# Altium schematic symbol library electronic_dc_load_v1.SchLib: 53 symbols (part 1 of 2)
Pins are listed as number, name and electrical type; pins without a type are passive.

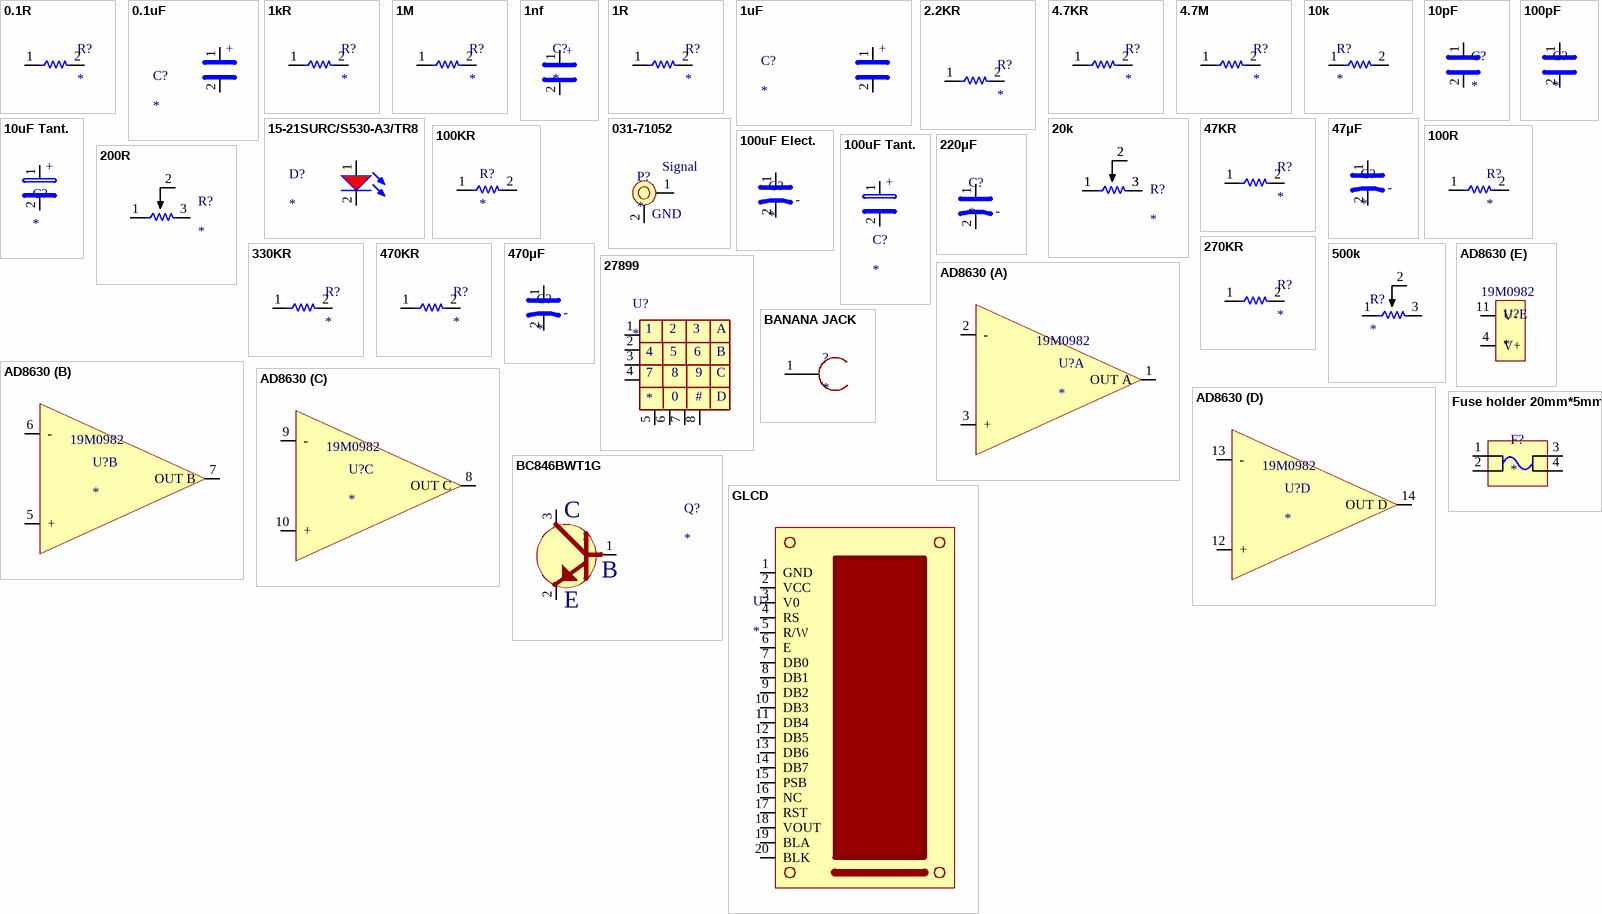
[diagram p0: symbols 0.1R to GLCD]

## 0.1R
designator R?
BOURNS - PWR220T-35-R100F - RESISTOR, POWER, 0.1R, 0.01, 35W; Resistance: 100mR; Tolerance: 1%; Voltage Rating: 2kV; Threshold Voltage: 1.4V; Temperature Coefficient: 100ppm/°C; Voltage Rating (DC): 250V; Lead Diameter: 0.72mm; Supplier 1: Digi-Key; Manufacturer: Bourns; Manufacturer Part Number: PWR220T-35-R100F; RoHS: Yes; Category: Through-Hole Resistors; Stock 1: 660; Pricing 1: 1=4.48000, 10=4.05400, 100=3.01880, 1000=2.17350, 2500=2.13900 (USD); Case/Package: TO-220; Min Operating Temperature: -55°C; Max Operating Temperature: 155°C; Power Rating: 35W; Packaging: Rail/Tube; Package Quantity: 50; Resistor Type: Thick Film; Number of Terminations: 2; Termination: Radial; Max Power Dissipation: 35W; Features: Automotive AEC-Q200; Series: PWR220T-35; Resistance Tolerance: 1%; Construction: Rectangular; Technology: THICK FILM; Length: 10.1mm; Width: 0.157inch; Height: 14.6mm; Lead Pitch: 5.08mm; Depth: 4mm; REACH SVHC: No SVHC; Military Standard: Not; RoHS Compliant: Yes; ComponentLink1URL: https://datasheet.ciiva.com/7986/1869472-7986042.pdf?src-supplier=Element14; ComponentLink1Description: https://datasheet.ciiva.com/7986/1869472-7986042.pdf?src-supplier=Element14; Supplier Part Number 1: PWR220T-35-R100F-ND
footprint TO-220 - 2 PIN
pins: 1, 2

## 0.1uF
designator C?
CAPACITOR PEN FILM 0.1UF, 100V, 10%, 1812, FULL REEL; Product Range:AEC-Q200 LDE Series; Capacitance:0.1 F; Capacitance Tolerance: 10%; Capacitor Dielectric Type:PEN (Polyethylene Naphthalate); Voltage Rating:100V; Lead Spacing:- ;RoHS Compliant: Yes; Manufacturer: KEMET; Manufacturer Part Number: LDEEC3100KA5N00; Dielectric Material: Polyester; Capacitance: 100nF; Voltage Rating (AC): 63V; Dissipation Factor: 0.8%; Supplier 1: Digi-Key; RoHS: Yes; Category: Film Capacitors; Stock 1: 2950; Pricing 1: 1=0.88000, 10=0.66600, 50=0.55300, 100=0.47620, 500=0.36868, 1000=0.31747 (USD); Mount: Surface Mount,PCB; Case/Package: 1812; Number of Pins: 2; Case Code (Metric): 4532; Case Code (Imperial): 1812; Min Operating Temperature: -55°C; Max Operating Temperature: 125°C; Tolerance: 10%; Package Quantity: 1; Voltage Rating: 100V; Voltage Rating (DC): 100V; Packaging: Tape and Reel; Termination: SMD/SMT; Voltage: 100V; Series: LDE; Construction: Flat; Length: 4.7mm; Width: 3.2mm; Height: 2.4mm; Height - Seated (Max): 0.094inch; Depth: 3.3mm; Radiation Hardening: No; REACH SVHC: No SVHC; RoHS Compliant: Yes; ComponentLink1URL: https://datasheet.ciiva.com/17238/datasheetpn-ldeec3100ka5n00-17238771.pdf?src-supplier=Avnet+Europe; ComponentLink1Description: https://datasheet.ciiva.com/17238/datasheetpn-ldeec3100ka5n00-17238771.pdf?src-supplier=Avnet+Europe; Supplier Part Number 1: 399-5480-1-ND
footprint RESC2012X06N (Chip Resistor, 2-Leads, Body 2.00x1.25mm, IPC Medium Density)
pins: 1, 2
text: +

## 1kR
designator R?
Resistor;  Thin Film;  Res 1 Kilohms;  Pwr-Rtg 0.25 W;  Tol 0.1%;  SMT;  0805; Manufacturer: TT IRC; Manufacturer Part Number: PFC-W0805LF-03-1001-B; Resistance: 1kR; Voltage Rating: 100V; Power Rating: 250mW; Temperature Coefficient: 25ppm/°C; Supplier 1: Mouser; RoHS: Yes; Category: Chip SMD Resistors; Stock 1: 8948; Pricing 1: 1=0.98000, 10=0.95500, 50=0.82700, 100=0.76400, 1000=0.50900, 10000=0.44600 (USD); Case/Package: 0805; Number of Pins: 2; Case Code (Imperial): 0805; Case Code (Metric): 2012; Size Code: 0805; Min Operating Temperature: -55°C; Max Operating Temperature: 150°C; Tolerance: 0.1%; Packaging: Tape and Reel; Package Quantity: 1000; Resistor Type: Thin Film; Termination: SMD/SMT; Voltage Rating (DC): 100V; Series: PFC; Construction: Rectangular; Resistance Tolerance: 0.1%; Length: 2.05mm; Width: 1.27mm; Height: 0.5mm; Depth: 1.27mm; REACH SVHC: No SVHC; Military Standard: Not; Lead Free: Lead Free; RoHS Compliant: Yes; ComponentLink1URL: https://datasheet.ciiva.com/26849/getdatasheetpartid-728507-26849970.pdf?src-supplier=Verical; ComponentLink1Description: https://datasheet.ciiva.com/26849/getdatasheetpartid-728507-26849970.pdf?src-supplier=Verical; ComponentLink2URL: https://datasheet.ciiva.com/8036/126955-8036106.pdf?src-supplier=Element14; ComponentLink2Description: https://datasheet.ciiva.com/8036/126955-8036106.pdf?src-supplier=Element14; ComponentLink3URL: https://datasheet.ciiva.com/16756/70061376-16756399.pdf?src-supplier=Allied+Electronics; ComponentLink3Description: https://datasheet.ciiva.com/16756/70061376-16756399.pdf?src-supplier=Allied+Electronics; Supplier Part Number 1: 66-PFC08LF1.0K-B
footprint RESC1518X26N (Chip Resistor, 2-Leads, Body 1.50x1.80mm, IPC Medium Density)
pins: 1, 2

## 1M
designator R?
Res Thin Film 1206 1M Ohm 0.1% 0.25W(1/4W) ±25ppm/C Molded SMD Automotive Paper T/R; Manufacturer: Vishay Dale; Manufacturer Part Number: TNPW12061M00BEEA; Resistance: 1MR; Power Rating: 250mW; Voltage Rating: 200V; Temperature Coefficient: 25ppm/°C; Supplier 1: Digi-Key; RoHS: Yes; Category: Chip SMD Resistors; Stock 1: 47810; Pricing 1: 1=0.72000, 10=0.62700, 100=0.43700, 1000=0.25650, 2500=0.25270 (USD); Mount: Surface Mount; Case/Package: 1206; Case Code (Imperial): 1206; Case Code (Metric): 3216; Contact Plating: Tin; Size Code: 1206; Min Operating Temperature: -55°C; Max Operating Temperature: 125°C; Tolerance: 0.1%; Packaging: Tape and Reel; Package Quantity: 5000; Termination: SMD/SMT; Resistor Type: Thin Film; Number of Terminations: 2; Max Power Dissipation: 250mW; Voltage Rating (DC): 200V; Features: Moisture Resistant,Automotive AEC-Q200,Anti-Sulfur; Series: TNPW; Resistance Tolerance: 0.1%; Technology: THIN FILM; Construction: Rectangular; Length: 3.2mm; Width: 1.6mm; Height: 0.55mm; Depth: 1.6mm; Radiation Hardening: No; REACH SVHC: Unknown; Military Standard: Not; Lead Free: Lead Free; RoHS Compliant: Yes; ComponentLink1URL: https://datasheet.ciiva.com/2484/tnpw-e3-2484754.pdf?src-supplier=Digi-Key; ComponentLink1Description: https://datasheet.ciiva.com/2484/tnpw-e3-2484754.pdf?src-supplier=Digi-Key; ComponentLink2URL: https://datasheet.ciiva.com/2484/tnpw-e3-2484755.pdf?src-supplier=Digi-Key; ComponentLink2Description: https://datasheet.ciiva.com/2484/tnpw-e3-2484755.pdf?src-supplier=Digi-Key; ComponentLink3URL: https://datasheet.ciiva.com/2484/tnpw-e3-2484756.pdf?src-supplier=Digi-Key; ComponentLink3Description: https://datasheet.ciiva.com/2484/tnpw-e3-2484756.pdf?src-supplier=Digi-Key; ComponentLink4URL: https://datasheet.ciiva.com/22675/1599293-22675126.pdf?src-supplier=Element14; ComponentLink4Description: https://datasheet.ciiva.com/22675/1599293-22675126.pdf?src-supplier=Element14; ComponentLink5URL: https://datasheet.ciiva.com/16757/70201627-16757642.pdf?src-supplier=Allied+Electronics; ComponentLink5Description: https://datasheet.ciiva.com/16757/70201627-16757642.pdf?src-supplier=Allied+Electronics; ComponentLink6URL: https://datasheet.ciiva.com/46383/1599293-46383851.pdf?src-supplier=Element14; ComponentLink6Description: https://datasheet.ciiva.com/46383/1599293-46383851.pdf?src-supplier=Element14; Supplier Part Number 1: TNP1.00MACCT-ND
footprint RESC3216X06N (Chip Resistor, 2-Leads, Body 3.20x1.60mm, IPC Medium Density)
pins: 1, 2

## 1nf
designator C?
CAP FILM 1000PF 5% 100VDC RADIAL; Manufacturer: KEMET; Manufacturer Part Number: R82EC1100AA50J; Dielectric Material: Polyester; Capacitance: 1nF; Voltage Rating (DC): 100V; Voltage Rating (AC): 63V; Dielectric: PET; Dissipation Factor: 80%; Insulation Resistance: 30R; Type: General Purpose; Lead Diameter: 0.5mm; Supplier 1: Digi-Key; RoHS: Yes; Category: Film Capacitors; Stock 1: 3; Pricing 1: 1=0.22000, 10=0.14800, 50=0.09880, 100=0.08400, 500=0.05928, 1000=0.05187, 2500=0.04940, 5000=0.04570 (USD); Mount: Through Hole,PCB; Case/Package: Radial; Min Operating Temperature: -55°C; Max Operating Temperature: 105°C; Packaging: Bulk; Tolerance: 5%; Package Quantity: 3000; Voltage Rating: 100V; Termination: Radial; Voltage: 100V; Series: R82; Construction: RADIAL; Length: 7.2mm; Width: 2.5mm; Height: 6.5mm; Lead Pitch: 5mm; Height - Seated (Max): 0.26inch; Depth: 2.5mm; Ratings: AEC-Q200; Radiation Hardening: No; RoHS Compliant: Yes; ComponentLink1URL: https://datasheet.ciiva.com/13404/kem-f3101-r82-540827-13404565.pdf?src-supplier=Mouser; ComponentLink1Description: https://datasheet.ciiva.com/13404/kem-f3101-r82-540827-13404565.pdf?src-supplier=Mouser; Supplier Part Number 1: 399-5871-ND
footprint R82EC1100AA50J
pins: 1, 2
text: +

## 1R
designator R?
RES 1 OHM 5W 1% AXIAL; Manufacturer: Vishay BCcomponents; Manufacturer Part Number: PAC500001008FAC000; Resistance: 1R; Temperature Coefficient: 100ppm/°C; Supplier 1: Mouser; RoHS: Yes; Category: Through-Hole Resistors; Stock 1: 101; Pricing 1: 1=1.28000, 10=0.95500, 50=0.95500, 100=0.69800, 1000=0.48800, 10000=0.45600 (USD); Mount: Through Hole; Case/Package: Conformal; Contact Plating: Tin; Min Operating Temperature: -55°C; Max Operating Temperature: 275°C; Package Quantity: 1; Power Rating: 5W; Tolerance: 1%; Packaging: Tape and Reel; Resistor Type: Wirewound; Number of Terminations: 2; Termination: Axial; Max Power Dissipation: 5W; Features: Flame Retardant Coating; Series: PAC; Construction: Cylindrical; Diameter: 7.5mm; Length: 26mm; Radiation Hardening: No; Military Standard: Not; RoHS Compliant: Yes; ComponentLink1URL: https://datasheet.ciiva.com/2720/pacserie-2720053.pdf?src-supplier=Digi-Key; ComponentLink1Description: https://datasheet.ciiva.com/2720/pacserie-2720053.pdf?src-supplier=Digi-Key; ComponentLink2URL: https://datasheet.ciiva.com/2720/pacserie-2720054.pdf?src-supplier=Digi-Key; ComponentLink2Description: https://datasheet.ciiva.com/2720/pacserie-2720054.pdf?src-supplier=Digi-Key; ComponentLink3URL: https://datasheet.ciiva.com/8401/pacserie-8401197.pdf?src-supplier=Avnet; ComponentLink3Description: https://datasheet.ciiva.com/8401/pacserie-8401197.pdf?src-supplier=Avnet; Supplier Part Number 1: 71-PAC500001008FAC00
footprint RESC296132X130N (Chip Resistor, 2-Leads, Body 29.59x13.21mm, IPC Medium Density)
pins: 1, 2

## 1uF
designator C?
CAP TANT 1UF 35V 10% 1206; Manufacturer: Kyocera AVX; Manufacturer Part Number: TPSA105K035R3000; Dielectric Material: Tantalum; ESR (Equivalent Series Resistance): 3R; Ripple Current: 63uA; Leakage Current: 500nA; Polarity: Polar; Dissipation Factor: 4%; Supplier 1: Digi-Key; RoHS: Yes; Category: Tantalum Capacitors; Stock 1: 11457; Pricing 1: 1=0.57000, 10=0.40600, 50=0.30680, 100=0.26730, 500=0.19800, 1000=0.16830 (USD); Mount: Surface Mount,PCB; Case/Package: 1206; Number of Pins: 2; Case Code (Imperial): 1206; Case Code (Metric): 3216; Min Operating Temperature: -55°C; Max Operating Temperature: 125°C; Capacitance: 1uF; Package Quantity: 1; Voltage Rating: 35V; Tolerance: 10%; Packaging: Tape and Reel; Voltage Rating (DC): 35V; Termination: SMD/SMT; Voltage: 35V; Features: General Purpose; Series: TPS; Construction: Flat; Length: 3.2mm; Width: 1.6mm; Height: 1.6mm; Height - Seated (Max): 0.071inch; Depth: 1.6mm; Radiation Hardening: No; REACH SVHC: No SVHC; Lead Free: Lead Free; RoHS Compliant: Yes; ComponentLink1URL: https://datasheet.ciiva.com/11794/0900766b8070be5f-11794565.pdf?src-supplier=RSComponents; ComponentLink1Description: https://datasheet.ciiva.com/11794/0900766b8070be5f-11794565.pdf?src-supplier=RSComponents; ComponentLink2URL: https://datasheet.ciiva.com/263/tps-263817.pdf?src-supplier=Digi-Key; ComponentLink2Description: https://datasheet.ciiva.com/263/tps-263817.pdf?src-supplier=Digi-Key; ComponentLink3URL: https://datasheet.ciiva.com/7832/1680477-7832618.pdf?src-supplier=Element14; ComponentLink3Description: https://datasheet.ciiva.com/7832/1680477-7832618.pdf?src-supplier=Element14; ComponentLink4URL: https://datasheet.ciiva.com/7832/1441576-7832619.pdf?src-supplier=Element14; ComponentLink4Description: https://datasheet.ciiva.com/7832/1441576-7832619.pdf?src-supplier=Element14; ComponentLink5URL: https://datasheet.ciiva.com/7832/1441576-7832620.pdf?src-supplier=Element14; ComponentLink5Description: https://datasheet.ciiva.com/7832/1441576-7832620.pdf?src-supplier=Element14; ComponentLink6URL: https://datasheet.ciiva.com/14602/70001047-14602621.pdf?src-supplier=Allied+Electronics; ComponentLink6Description: https://datasheet.ciiva.com/14602/70001047-14602621.pdf?src-supplier=Allied+Electronics; ComponentLink7URL: https://datasheet.ciiva.com/14598/70001047-14598933.pdf?src-supplier=Allied+Electronics; ComponentLink7Description: https://datasheet.ciiva.com/14598/70001047-14598933.pdf?src-supplier=Allied+Electronics; ComponentLink8URL: https://datasheet.ciiva.com/263/tps-263816.pdf?src-supplier=Digi-Key; ComponentLink8Description: https://datasheet.ciiva.com/263/tps-263816.pdf?src-supplier=Digi-Key; ComponentLink9URL: https://datasheet.ciiva.com/263/tps-263818.pdf?src-supplier=Digi-Key; ComponentLink9Description: https://datasheet.ciiva.com/263/tps-263818.pdf?src-supplier=Digi-Key; ComponentLink10URL: https://datasheet.ciiva.com/46438/packmark-46438479.pdf?src-supplier=Element14; ComponentLink10Description: https://datasheet.ciiva.com/46438/packmark-46438479.pdf?src-supplier=Element14; Supplier Part Number 1: 478-3336-1-ND
footprint RESC3216X06N (Chip Resistor, 2-Leads, Body 3.20x1.60mm, IPC Medium Density)
pins: 1, 2
text: +

## 2.2KR
designator R?
2.2K ±0.1%  0.25W
footprint RESC1518X26N (Chip Resistor, 2-Leads, Body 1.50x1.80mm, IPC Medium Density)
pins: 1, 2

## 4.7KR
designator R?
4.7K ±0.1%  0.25W
footprint RESC1518X26N (Chip Resistor, 2-Leads, Body 1.50x1.80mm, IPC Medium Density)
pins: 1, 2

## 4.7M
designator R?
Resistor SMD 4.7 MOhm  ±  1 % 1206, CRCW12064M70FKEA, Vishay; Resistance: 4.7MR; Power Rating: 250mW; Tolerance: 1%; Voltage Rating: 200V; Temperature Coefficient: 100ppm/°C; Supplier 1: Digi-Key; Manufacturer: Vishay; Manufacturer Part Number: CRCW12064M70FKEA; RoHS: Yes; Category: Chip SMD Resistors; Stock 1: 13706; Pricing 1: 1=0.10000, 10=0.08000, 100=0.03060, 1000=0.01346, 2500=0.01162 (USD); Case/Package: 1206; Number of Pins: 2; Weight: 0.000353oz; Case Code (Metric): 3216; Case Code (Imperial): 1206; Contact Plating: Tin; Min Operating Temperature: -55°C; Max Operating Temperature: 155°C; Packaging: Tape and Reel; Resistor Type: Thick Film; Package Quantity: 10; Number of Terminations: 2; Termination: SMD/SMT; Max Power Dissipation: 250mW; Voltage Rating (DC): 200V; Features: Automotive AEC-Q200; Series: CRCW; Technology: THICK FILM; Resistance Tolerance: 1%; Construction: Rectangular; Length: 3.2mm; Width: 0.063inch; Height: 0.55mm; Depth: 1.6mm; Radiation Hardening: No; REACH SVHC: Unknown; Military Standard: Not; Lead Free: Lead Free; RoHS Compliant: Yes; ComponentLink1URL: https://datasheet.ciiva.com/11811/0900766b80d98b5e-11811376.pdf?src-supplier=RSComponents; ComponentLink1Description: https://datasheet.ciiva.com/11811/0900766b80d98b5e-11811376.pdf?src-supplier=RSComponents; ComponentLink2URL: https://datasheet.ciiva.com/2497/dcrcwe3-2497009.pdf?src-supplier=Digi-Key; ComponentLink2Description: https://datasheet.ciiva.com/2497/dcrcwe3-2497009.pdf?src-supplier=Digi-Key; ComponentLink3URL: https://datasheet.ciiva.com/2497/dcrcwe3-2497010.pdf?src-supplier=Digi-Key; ComponentLink3Description: https://datasheet.ciiva.com/2497/dcrcwe3-2497010.pdf?src-supplier=Digi-Key; ComponentLink4URL: https://datasheet.ciiva.com/2497/dcrcwe3-2497011.pdf?src-supplier=Digi-Key; ComponentLink4Description: https://datasheet.ciiva.com/2497/dcrcwe3-2497011.pdf?src-supplier=Digi-Key; ComponentLink5URL: https://datasheet.ciiva.com/6074/1697337-6074135.pdf?src-supplier=Farnell; ComponentLink5Description: https://datasheet.ciiva.com/6074/1697337-6074135.pdf?src-supplier=Farnell; ComponentLink6URL: https://datasheet.ciiva.com/7843/1697337-7843431.pdf?src-supplier=Element14; ComponentLink6Description: https://datasheet.ciiva.com/7843/1697337-7843431.pdf?src-supplier=Element14; ComponentLink7URL: https://datasheet.ciiva.com/7843/1697337-7843432.pdf?src-supplier=Element14; ComponentLink7Description: https://datasheet.ciiva.com/7843/1697337-7843432.pdf?src-supplier=Element14; ComponentLink8URL: https://datasheet.ciiva.com/8896/dcrcwe3-8896296.pdf?src-supplier=Avnet; ComponentLink8Description: https://datasheet.ciiva.com/8896/dcrcwe3-8896296.pdf?src-supplier=Avnet; ComponentLink9URL: https://datasheet.ciiva.com/16894/dcrcwe3-16894747.pdf?src-supplier=Avnet+Europe; ComponentLink9Description: https://datasheet.ciiva.com/16894/dcrcwe3-16894747.pdf?src-supplier=Avnet+Europe; ComponentLink10URL: https://datasheet.ciiva.com/22706/1697337-22706301.pdf?src-supplier=Element14; ComponentLink10Description: https://datasheet.ciiva.com/22706/1697337-22706301.pdf?src-supplier=Element14; ComponentLink11URL: https://datasheet.ciiva.com/26316/fld-crcw-e3-data-en-26316494.pdf?src-supplier=Distrelec; ComponentLink11Description: https://datasheet.ciiva.com/26316/fld-crcw-e3-data-en-26316494.pdf?src-supplier=Distrelec; Supplier Part Number 1: 541-4.70MFCT-ND
footprint RESC3216X06N (Chip Resistor, 2-Leads, Body 3.20x1.60mm, IPC Medium Density)
pins: 1, 2

## 10k
designator R?
RES SMD 10K OHM 0.1% 1/4W 0805; Manufacturer: Panasonic; Manufacturer Part Number: ERJ-PB6B1002V; Resistance: 10kR; Max Power Dissipation: 250mW; Temperature Coefficient: 50ppm/°C; Supplier 1: Mouser; RoHS: Yes; Category: Chip SMD Resistors; Stock 1: 10409; Pricing 1: 1=0.27000, 10=0.19900, 50=0.15600, 100=0.09100, 1000=0.04700, 10000=0.03500 (USD); Case/Package: 0805; Case Code (Metric): 2012; Case Code (Imperial): 0805; Min Operating Temperature: -55°C; Max Operating Temperature: 155°C; Features: Automotive AEC-Q200; Packaging: Tape and Reel; Resistor Type: Thick Film; Number of Terminations: 2; Tolerance: 0.1%; Length: 0.079inch; Width: 0.049inch; Height - Seated (Max): 0.028inch; ComponentLink1URL: https://industrial.panasonic.com/cdbs/www-data/pdf/RDM0000/DMM0000COL5.pdf?src-supplier=Digi-Key; ComponentLink1Description: https://industrial.panasonic.com/cdbs/www-data/pdf/RDM0000/DMM0000COL5.pdf?src-supplier=Digi-Key; ComponentLink2URL: https://industrial.panasonic.com/sa/system/files/data/download/catalog/id_fixed-resistors_e_2.pdf?src-supplier=Digi-Key; ComponentLink2Description: https://industrial.panasonic.com/sa/system/files/data/download/catalog/id_fixed-resistors_e_2.pdf?src-supplier=Digi-Key; Supplier Part Number 1: 667-ERJ-PB6B1002V
footprint RESC2012X06N (Chip Resistor, 2-Leads, Body 2.00x1.25mm, IPC Medium Density)
pins: 1, 2

## 10pF
designator C?
Multilayer Ceramic Capacitors MLCC - SMD/SMT 1000volts 10pF 5%; Manufacturer: Johanson; Manufacturer Part Number: 102S42E100JV3E; Dielectric: C0G; Voltage Rating (DC): 1kV; Supplier 1: Mouser; RoHS: Yes; Stock 1: 1984; Pricing 1: 1=1.27000, 10=0.89100, 50=0.89100, 100=0.75000, 1000=0.50000, 10000=0.37000 (USD); Case/Package: 1111; Case Code (Imperial): 1111; Case Code (Metric): 2828; Min Operating Temperature: -55°C; Max Operating Temperature: 125°C; Capacitance: 10pF; Packaging: Tape and Reel; Termination: SMD/SMT; Tolerance: 5%; Package Quantity: 2000; Length: 2.79mm; Width: 2.79mm; Height: 2.59mm; RoHS Compliant: Yes; ComponentLink1URL: http://www.mouser.com/ds/2/611/JTI-CAT-MLCC-HighQ-516212.pdf?src-supplier=Mouser; ComponentLink1Description: http://www.mouser.com/ds/2/611/JTI-CAT-MLCC-HighQ-516212.pdf?src-supplier=Mouser; Supplier Part Number 1: 609-102S42E100JV3E
pins: 1, 2

## 10uF Tant.
designator C?
AVX   TPSC106K025R0500...   CAPACITOR, CASE C, 10UF, 25V; Manufacturer: Kyocera AVX; Dielectric Material: Tantalum; Tolerance: 10%; ESR (Equivalent Series Resistance): 500mR; Leakage Current: 2.5uA; Dissipation Factor: 6%; Polarity: Polar; Supplier 1: Digi-Key; Manufacturer Part Number: TPSC106K025R0500; RoHS: Yes; Category: Tantalum Capacitors; Stock 1: 8068; Pricing 1: 1=0.88000, 10=0.66600, 50=0.55360, 100=0.47660 (USD); Mount: Surface Mount,PCB; Case/Package: Molded; Number of Pins: 2; Case Code (Imperial): 2312; Case Code (Metric): 6032; Min Operating Temperature: -55°C; Max Operating Temperature: 125°C; Capacitance: 10uF; Packaging: Tape and Reel; Voltage Rating: 25V; Voltage Rating (DC): 25V; Package Quantity: 1; Termination: SMD/SMT; Voltage: 25V; Features: General Purpose; Series: TPS; Construction: Flat; Length: 6mm; Width: 3.2mm; Height: 2.6mm; Height - Seated (Max): 0.11inch; Depth: 3.2mm; Size: 2.6mm; Radiation Hardening: No; REACH SVHC: No SVHC; Lead Free: Lead Free; RoHS Compliant: Yes; ComponentLink1URL: https://datasheet.ciiva.com/19458/2025244-19458872.pdf?src-supplier=Jameco; ComponentLink1Description: https://datasheet.ciiva.com/19458/2025244-19458872.pdf?src-supplier=Jameco; ComponentLink2URL: https://datasheet.ciiva.com/29121/806610-da-01-en-smd-tantal10uf-25v-10-0-500r-500st-29121571.pdf?src-supplier=Conrad; ComponentLink2Description: https://datasheet.ciiva.com/29121/806610-da-01-en-smd-tantal10uf-25v-10-0-500r-500st-29121571.pdf?src-supplier=Conrad; ComponentLink3URL: https://datasheet.ciiva.com/12911/tps-23028-12911431.pdf?src-supplier=Mouser; ComponentLink3Description: https://datasheet.ciiva.com/12911/tps-23028-12911431.pdf?src-supplier=Mouser; ComponentLink4URL: https://datasheet.ciiva.com/7730/1441576-7730890.pdf?src-supplier=Element14; ComponentLink4Description: https://datasheet.ciiva.com/7730/1441576-7730890.pdf?src-supplier=Element14; ComponentLink5URL: https://datasheet.ciiva.com/7730/1755837-7730891.pdf?src-supplier=Element14; ComponentLink5Description: https://datasheet.ciiva.com/7730/1755837-7730891.pdf?src-supplier=Element14; ComponentLink6URL: https://datasheet.ciiva.com/264/tps-264284.pdf?src-supplier=Digi-Key; ComponentLink6Description: https://datasheet.ciiva.com/264/tps-264284.pdf?src-supplier=Digi-Key; ComponentLink7URL: https://datasheet.ciiva.com/7730/1755837-7730892.pdf?src-supplier=Element14; ComponentLink7Description: https://datasheet.ciiva.com/7730/1755837-7730892.pdf?src-supplier=Element14; ComponentLink8URL: https://datasheet.ciiva.com/264/tps-264285.pdf?src-supplier=Digi-Key; ComponentLink8Description: https://datasheet.ciiva.com/264/tps-264285.pdf?src-supplier=Digi-Key; ComponentLink9URL: https://datasheet.ciiva.com/7730/1441576-7730893.pdf?src-supplier=Element14; ComponentLink9Description: https://datasheet.ciiva.com/7730/1441576-7730893.pdf?src-supplier=Element14; ComponentLink10URL: https://datasheet.ciiva.com/22746/1441576-22746493.pdf?src-supplier=Element14; ComponentLink10Description: https://datasheet.ciiva.com/22746/1441576-22746493.pdf?src-supplier=Element14; ComponentLink11URL: https://datasheet.ciiva.com/3004/tps-3004613.pdf?src-supplier=Avnet; ComponentLink11Description: https://datasheet.ciiva.com/3004/tps-3004613.pdf?src-supplier=Avnet; ComponentLink12URL: https://datasheet.ciiva.com/7730/1680477-7730889.pdf?src-supplier=Element14; ComponentLink12Description: https://datasheet.ciiva.com/7730/1680477-7730889.pdf?src-supplier=Element14; ComponentLink13URL: https://datasheet.ciiva.com/18710/tps-eng-18710601.pdf?src-supplier=Distrelec; ComponentLink13Description: https://datasheet.ciiva.com/18710/tps-eng-18710601.pdf?src-supplier=Distrelec; Supplier Part Number 1: 478-1762-1-ND
footprint CAPCP6032X20N-10uf Tant. (Chip Capacitor, 2-Leads, Body 6.00x3.20mm, IPC Medium Density)
pins: 1, 2
text: +

## 15-21SURC/S530-A3/TR8
designator D?
Standard LEDs - SMD SMD LED; Manufacturer: Everlight; Manufacturer Part Number: 15-21SURC/S530-A3/TR8; Color: Red; Lens Color: Colorless; Luminous Intensity: 54mcd; Viewing Angle: 140°; Forward Current: 20mA; Forward Voltage: 2V; Lens Style: Diffused,Colorless,Rectangular,Clear; Power Rating: 60mW; Dominant Wavelength: 624nm; Lens Transparency: Clear; Number of Elements: 1; Reverse Voltage: 5V; Supplier 1: Mouser; RoHS: Yes; Category: LEDs; Stock 1: 1500; Pricing 1: 1=0.38000, 10=0.20300, 50=0.20300, 100=0.10700, 1000=0.07200, 10000=0.04800 (USD); Mount: Surface Mount; Case/Package: 1206; Number of Pins: 2; Min Operating Temperature: -40°C; Max Operating Temperature: 85°C; Packaging: Tape and Reel; Package Quantity: 2000; Illumination Color: Red; Test Current: 20mA; Power Dissipation: 60mW; Number of LEDs: 1; Max Power Dissipation: 60mW; Series: -; Length: 3.2mm; Width: 1.5mm; Height: 1mm; Depth: 1.5mm; Radiation Hardening: No; Lead Free: Lead Free; RoHS Compliant: Yes; ComponentLink1URL: https://datasheet.ciiva.com/16397/1239103534-9274-16397709.pdf?src-supplier=Future+Electronics; ComponentLink1Description: https://datasheet.ciiva.com/16397/1239103534-9274-16397709.pdf?src-supplier=Future+Electronics; ComponentLink2URL: https://datasheet.ciiva.com/14182/07531189-14182654.pdf?src-supplier=Distrelec; ComponentLink2Description: https://datasheet.ciiva.com/14182/07531189-14182654.pdf?src-supplier=Distrelec; ComponentLink3URL: https://datasheet.ciiva.com/2119/15-21surc-s530-xx-tr8-2119437.pdf?src-supplier=Digi-Key; ComponentLink3Description: https://datasheet.ciiva.com/2119/15-21surc-s530-xx-tr8-2119437.pdf?src-supplier=Digi-Key; ComponentLink4URL: https://datasheet.ciiva.com/12401/1521surcs530a3tr8-195649-12401374.pdf?src-supplier=Mouser; ComponentLink4Description: https://datasheet.ciiva.com/12401/1521surcs530a3tr8-195649-12401374.pdf?src-supplier=Mouser; ComponentLink5URL: https://datasheet.ciiva.com/26925/getdatasheetpartid-761151-26925787.pdf?src-supplier=Verical; ComponentLink5Description: https://datasheet.ciiva.com/26925/getdatasheetpartid-761151-26925787.pdf?src-supplier=Verical; Supplier Part Number 1: 638-1521SURCS530A3
footprint Diode
pins: 1 A (power), 2 K (power)

## 20k
designator R?
BOURNS         3296P-1-203LF            TRIMMER, 25 TURN 20K; Tolerance: 10%; Resistance: 20kR; Number of Turns: 25; Power Rating: 500mW; Temperature Coefficient: 100ppm/°C; Supplier 1: Newark; Manufacturer: Bourns; Manufacturer Part Number: 3296P-1-203LF; RoHS: Yes; Category: Variable Resistors and Potentiometers; Stock 1: 729; Pricing 1: 100=1.67000, 500=1.31000 (USD); Mount: Through Hole,Panel,PCB; Weight: 0.03oz; Color: Blue; Min Operating Temperature: -55°C; Max Operating Temperature: 125°C; Package Quantity: 50; Packaging: Rail/Tube; Resistor Type: Cermet; Termination: Pin; Taper: Linear; Max Power Dissipation: 500mW; Series: 3296; Technology: CERMET; Resistance Tolerance: 10%; Length: 9.53mm; Width: 0.395inch; Height: 0.19inch; Depth: 11.55mm; Radiation Hardening: No; REACH SVHC: No SVHC; Military Standard: Not; Lead Free: Lead Free; RoHS Compliant: Yes; ComponentLink1URL: https://datasheet.ciiva.com/1570/3296-1570384.pdf?src-supplier=Newark; ComponentLink1Description: https://datasheet.ciiva.com/1570/3296-1570384.pdf?src-supplier=Newark; ComponentLink2URL: https://datasheet.ciiva.com/11832/0900766b8069ccf4-11832206.pdf?src-supplier=RSComponents; ComponentLink2Description: https://datasheet.ciiva.com/11832/0900766b8069ccf4-11832206.pdf?src-supplier=RSComponents; ComponentLink3URL: https://datasheet.ciiva.com/29190/447270-da-01-en-trimmer-tht3296p-1-203lf-20-k-0-5w-29190277.pdf?src-supplier=Conrad; ComponentLink3Description: https://datasheet.ciiva.com/29190/447270-da-01-en-trimmer-tht3296p-1-203lf-20-k-0-5w-29190277.pdf?src-supplier=Conrad; ComponentLink4URL: https://datasheet.ciiva.com/2158/3296-2158304.pdf?src-supplier=Digi-Key; ComponentLink4Description: https://datasheet.ciiva.com/2158/3296-2158304.pdf?src-supplier=Digi-Key; ComponentLink5URL: https://datasheet.ciiva.com/8088/3296-8088855.pdf?src-supplier=Avnet; ComponentLink5Description: https://datasheet.ciiva.com/8088/3296-8088855.pdf?src-supplier=Avnet; ComponentLink6URL: https://datasheet.ciiva.com/14173/ew3296-dat-e-14173049.pdf?src-supplier=Distrelec; ComponentLink6Description: https://datasheet.ciiva.com/14173/ew3296-dat-e-14173049.pdf?src-supplier=Distrelec; ComponentLink7URL: https://datasheet.ciiva.com/16715/70153578-16715724.pdf?src-supplier=Allied+Electronics; ComponentLink7Description: https://datasheet.ciiva.com/16715/70153578-16715724.pdf?src-supplier=Allied+Electronics; ComponentLink8URL: https://datasheet.ciiva.com/1131/1815117-1131230.pdf?src-supplier=Element14; ComponentLink8Description: https://datasheet.ciiva.com/1131/1815117-1131230.pdf?src-supplier=Element14
footprint 3296Y_Trimmer
pins: 1 (power), 1 (power), 2 (power), 2 (power), 3 (power), 3 (power)

## 031-71052
designator P?
Connector; RF; BNC; Rt. Angle; PCB Jack; Bulkhead Mnt; 75 Ohm; Nickel/Gold; Manufacturer: Amphenol; Manufacturer Part Number: 031-71052; Body Material: Zinc; Body Plating: Nickel; Dielectric Material: PBT; Frequency: 1GHz; Impedance: 75R; Connector Type: BNC,Socket; Voltage Rating: 500V; Supplier 1: Digi-Key; RoHS: Yes; Category: RF / Coaxial Connectors; Stock 1: 160; Pricing 1: 1=3.33000, 10=3.20000, 25=2.93320, 50=2.79980, 100=2.66640, 250=2.33312, 500=2.26644, 1000=1.93314, 2500=1.79982 (USD); Mount: Through Hole,Panel,Bulkhead,PCB; Contact Material: Bronze,Copper; Contact Plating: Gold; Housing Color: Silver; Min Operating Temperature: -55°C; Max Operating Temperature: 85°C; Termination: Solder; Packaging: Bulk; Orientation: Right Angle; Max Frequency: 1GHz; Package Quantity: 100; Fastening Type: Bayonet; Radiation Hardening: No; ComponentLink1URL: https://datasheet.ciiva.com/29191/c031-71052-29191970.pdf?src-supplier=Digi-Key; ComponentLink1Description: https://datasheet.ciiva.com/29191/c031-71052-29191970.pdf?src-supplier=Digi-Key; ComponentLink2URL: https://datasheet.ciiva.com/14568/70142399-14568714.pdf?src-supplier=Allied+Electronics; ComponentLink2Description: https://datasheet.ciiva.com/14568/70142399-14568714.pdf?src-supplier=Allied+Electronics; Supplier Part Number 1: ARF2869-ND
footprint PNC-031-71052
pins: 1 + (power), 2 (power)
text: Signal; GND

## 47KR
designator R?
47K ±0.1% 0.25W
footprint RESC1518X26N (Chip Resistor, 2-Leads, Body 1.50x1.80mm, IPC Medium Density)
pins: 1, 2

## 47μF
designator C?
47μF 16V  electrolytic
footprint Capacitor-47uf
pins: 1, 2
text: -

## 100KR
designator R?
100K ±0.1%  0.25W
footprint RESC1518X26N (Chip Resistor, 2-Leads, Body 1.50x1.80mm, IPC Medium Density)
pins: 1, 2

## 100pF
designator C?
Multilayer Ceramic Capacitors MLCC - SMD/SMT 1000volts 100pF 5%; Manufacturer: Johanson; Manufacturer Part Number: 102S42E101JV3E; Dielectric: C0G; Voltage Rating (DC): 1kV; Supplier 1: Mouser; RoHS: Yes; Stock 1: 1261; Pricing 1: 1=1.27000, 10=0.89100, 50=0.89100, 100=0.75000, 1000=0.50000, 10000=0.37000 (USD); Case/Package: 1111; Case Code (Imperial): 1111; Case Code (Metric): 2828; Min Operating Temperature: -55°C; Max Operating Temperature: 125°C; Capacitance: 100pF; Packaging: Tape and Reel; Termination: SMD/SMT; Tolerance: 5%; Package Quantity: 2000; Length: 2.79mm; Width: 2.79mm; Height: 2.59mm; RoHS Compliant: Yes; ComponentLink1URL: http://www.mouser.com/ds/2/611/JTI-CAT-MLCC-HighQ-516212.pdf?src-supplier=Mouser; ComponentLink1Description: http://www.mouser.com/ds/2/611/JTI-CAT-MLCC-HighQ-516212.pdf?src-supplier=Mouser; Supplier Part Number 1: 609-102S42E101JV3E
pins: 1, 2

## 100R
designator R?
100Ω ±0.1%  0.25W
footprint RESC1518X26N (Chip Resistor, 2-Leads, Body 1.50x1.80mm, IPC Medium Density)
pins: 1, 2

## 100uF Elect.
designator C?
CAP ALUM 100UF 20% 50V SMD electrolytic; Manufacturer: KEMET; Manufacturer Part Number: EDK107M050A9MAA; Ripple Current: 165mA; Leakage Current: 50uA; Life (Hours): 2000Hour; Dissipation Factor: 12%; Supplier 1: Digi-Key; RoHS: Yes; Category: Aluminum Electrolytic Capacitors; Stock 1: 2832; Pricing 1: 1=0.74000, 10=0.52100, 50=0.39420, 100=0.34340 (USD); Mount: Surface Mount; Case/Package: Radial; Min Operating Temperature: -40°C; Max Operating Temperature: 85°C; Capacitance: 100uF; Tolerance: 20%; Package Quantity: 500; Voltage Rating: 50V; Packaging: Cut Tape; Voltage Rating (DC): 50V; Ripple Current (AC): 165mA; Termination: SMD/SMT; Series: EDK; Construction: Cylindrical; Diameter: 8mm; Length: 10.2mm; Height: 10.2mm; Height - Seated (Max): 0.413inch; Radiation Hardening: No; REACH SVHC: No SVHC; RoHS Compliant: Yes; ComponentLink1URL: https://datasheet.ciiva.com/5363/kem-a4001-edk-535350-5363820.pdf?src-supplier=Mouser; ComponentLink1Description: https://datasheet.ciiva.com/5363/kem-a4001-edk-535350-5363820.pdf?src-supplier=Mouser; ComponentLink2URL: https://datasheet.ciiva.com/8032/1680956-8032398.pdf?src-supplier=Element14; ComponentLink2Description: https://datasheet.ciiva.com/8032/1680956-8032398.pdf?src-supplier=Element14; Supplier Part Number 1: 399-6672-1-ND
footprint CAPAE9183X102M (Aluminum Electrolytic Capacitor, Body 3.10x8.30x10.20mm, IPC Low Density)
pins: 1, 2
text: -

## 100uF Tant.
designator C?
AVX - TPSE107K020R0150 - Surface Mount Tantalum Capacitor, 100 &#181;F, 20 V, 2917 [7343 Metric], TPS Series, &#177; 10%, -55 &#176;C; Manufacturer: Kyocera AVX; Capacitance: 100uF; ESR (Equivalent Series Resistance): 150mR; Voltage Rating: 20V; Ripple Current: 420uA; Leakage Current: 20uA; Polarity: Polar; Dissipation Factor: 6%; Supplier 1: Digi-Key; Manufacturer Part Number: TPSE107K020R0150; RoHS: Yes; Category: Tantalum Capacitors; Stock 1: 680; Pricing 1: 1=1.87000, 10=1.51200, 50=1.32000, 100=1.15500 (USD); Mount: Surface Mount,PCB; Case/Package: 2917; Case Code (Metric): 7343; Case Code (Imperial): 2917; Weight: 0.023634oz; Dielectric Material: Tantalum; Min Operating Temperature: -55°C; Max Operating Temperature: 125°C; Tolerance: 10%; Voltage Rating (DC): 20V; Packaging: Tape and Reel; Package Quantity: 1; Termination: SMD/SMT; Voltage: 20V; Features: General Purpose; Series: TPS; Construction: Flat; Length: 7.3mm; Width: 4.3mm; Height: 4.1mm; Depth: 4.3mm; Height - Seated (Max): 0.169inch; Radiation Hardening: No; REACH SVHC: No SVHC; Lead Free: Lead Free; RoHS Compliant: Yes; ComponentLink1URL: https://datasheet.ciiva.com/26944/getdatasheetpartid-140515-26944833.pdf?src-supplier=Verical; ComponentLink1Description: https://datasheet.ciiva.com/26944/getdatasheetpartid-140515-26944833.pdf?src-supplier=Verical; ComponentLink2URL: https://datasheet.ciiva.com/36178/2038926-36178963.pdf?src-supplier=Jameco; ComponentLink2Description: https://datasheet.ciiva.com/36178/2038926-36178963.pdf?src-supplier=Jameco; ComponentLink3URL: https://datasheet.ciiva.com/11794/0900766b80962b61-11794582.pdf?src-supplier=RSComponents; ComponentLink3Description: https://datasheet.ciiva.com/11794/0900766b80962b61-11794582.pdf?src-supplier=RSComponents; ComponentLink4URL: https://datasheet.ciiva.com/29121/806605-da-01-en-smd-tantal100uf-20v-10-0-150r-400st-29121566.pdf?src-supplier=Conrad; ComponentLink4Description: https://datasheet.ciiva.com/29121/806605-da-01-en-smd-tantal100uf-20v-10-0-150r-400st-29121566.pdf?src-supplier=Conrad; ComponentLink5URL: https://datasheet.ciiva.com/265/tps-265429.pdf?src-supplier=Digi-Key; ComponentLink5Description: https://datasheet.ciiva.com/265/tps-265429.pdf?src-supplier=Digi-Key; ComponentLink6URL: https://datasheet.ciiva.com/265/tps-265430.pdf?src-supplier=Digi-Key; ComponentLink6Description: https://datasheet.ciiva.com/265/tps-265430.pdf?src-supplier=Digi-Key; ComponentLink7URL: https://datasheet.ciiva.com/12911/tps-23028-12911414.pdf?src-supplier=Mouser; ComponentLink7Description: https://datasheet.ciiva.com/12911/tps-23028-12911414.pdf?src-supplier=Mouser; ComponentLink8URL: https://datasheet.ciiva.com/265/tps-265431.pdf?src-supplier=Digi-Key; ComponentLink8Description: https://datasheet.ciiva.com/265/tps-265431.pdf?src-supplier=Digi-Key; ComponentLink9URL: https://datasheet.ciiva.com/11231/tps-11231351.pdf?src-supplier=Avnet; ComponentLink9Description: https://datasheet.ciiva.com/11231/tps-11231351.pdf?src-supplier=Avnet; ComponentLink10URL: https://datasheet.ciiva.com/14609/70001047-14609387.pdf?src-supplier=Allied+Electronics; ComponentLink10Description: https://datasheet.ciiva.com/14609/70001047-14609387.pdf?src-supplier=Allied+Electronics; ComponentLink11URL: https://datasheet.ciiva.com/16501/tps-16501660.pdf?src-supplier=Future+Electronics; ComponentLink11Description: https://datasheet.ciiva.com/16501/tps-16501660.pdf?src-supplier=Future+Electronics; ComponentLink12URL: https://datasheet.ciiva.com/7720/1680477-7720766.pdf?src-supplier=Element14; ComponentLink12Description: https://datasheet.ciiva.com/7720/1680477-7720766.pdf?src-supplier=Element14; ComponentLink13URL: https://datasheet.ciiva.com/7720/1680477-7720767.pdf?src-supplier=Element14; ComponentLink13Description: https://datasheet.ciiva.com/7720/1680477-7720767.pdf?src-supplier=Element14; ComponentLink14URL: https://datasheet.ciiva.com/14591/70001047-14591823.pdf?src-supplier=Allied+Electronics; ComponentLink14Description: https://datasheet.ciiva.com/14591/70001047-14591823.pdf?src-supplier=Allied+Electronics; Supplier Part Number 1: 478-1795-1-ND
footprint CAPCP7343X24N-100uf Tant. (Chip Capacitor, 2-Leads, Body 7.30x4.30mm, IPC Medium Density)
pins: 1, 2
text: +

## 200R
designator R?
GLOVE, POLYAMIDE, L/FREE, PU, SIZE 6 - More Details; Manufacturer: Bourns; Manufacturer Part Number: 3296Y-1-201LF; Tolerance: 10%; Resistance: 200R; Power Rating: 500mW; Voltage Rating: 300V; Number of Turns: 25; Temperature Coefficient: 100ppm/°C; Lead Diameter: 0.5mm; Supplier 1: Digi-Key; RoHS: Yes; Category: Variable Resistors and Potentiometers; Stock 1: 3; Pricing 1: 1=2.41000, 10=2.11700, 25=1.89800, 50=1.82500, 100=1.75200, 250=1.67900, 500=1.38700, 1000=1.31400, 5000=1.09500 (USD); Mount: Through Hole,Panel,PCB; Weight: 0.03oz; Color: Blue; Min Operating Temperature: -55°C; Max Operating Temperature: 125°C; Packaging: Rail/Tube; Package Quantity: 50; Voltage Rating (DC): 300V; Resistor Type: Cermet; Termination: Pin; Taper: Linear; Max Power Dissipation: 500mW; Series: 3296; Technology: CERMET; Resistance Tolerance: 10%; Length: 9.53mm; Width: 9.53mm; Height: 0.395inch; Depth: 4.83mm; Radiation Hardening: No; REACH SVHC: No SVHC; Military Standard: Not; Lead Free: Lead Free; RoHS Compliant: Yes; ComponentLink1URL: https://datasheet.ciiva.com/11831/0900766b8069ccf4-11831017.pdf?src-supplier=RSComponents; ComponentLink1Description: https://datasheet.ciiva.com/11831/0900766b8069ccf4-11831017.pdf?src-supplier=RSComponents; ComponentLink2URL: https://datasheet.ciiva.com/29122/447304-da-01-en-trimmer-tht3296y-1-201lf-200r-0-5w-29122391.pdf?src-supplier=Conrad; ComponentLink2Description: https://datasheet.ciiva.com/29122/447304-da-01-en-trimmer-tht3296y-1-201lf-200r-0-5w-29122391.pdf?src-supplier=Conrad; ComponentLink3URL: https://datasheet.ciiva.com/16716/70153578-16716822.pdf?src-supplier=Allied+Electronics; ComponentLink3Description: https://datasheet.ciiva.com/16716/70153578-16716822.pdf?src-supplier=Allied+Electronics; ComponentLink4URL: https://datasheet.ciiva.com/30066/3296-30066951.pdf?src-supplier=Onlinecomponents.com; ComponentLink4Description: https://datasheet.ciiva.com/30066/3296-30066951.pdf?src-supplier=Onlinecomponents.com; ComponentLink5URL: https://datasheet.ciiva.com/2158/3296-2158313.pdf?src-supplier=Digi-Key; ComponentLink5Description: https://datasheet.ciiva.com/2158/3296-2158313.pdf?src-supplier=Digi-Key; ComponentLink6URL: https://datasheet.ciiva.com/1131/1815117-1131451.pdf?src-supplier=Element14; ComponentLink6Description: https://datasheet.ciiva.com/1131/1815117-1131451.pdf?src-supplier=Element14; ComponentLink7URL: https://datasheet.ciiva.com/14173/dabourns3296-data-e-14173005.pdf?src-supplier=Distrelec; ComponentLink7Description: https://datasheet.ciiva.com/14173/dabourns3296-data-e-14173005.pdf?src-supplier=Distrelec; Supplier Part Number 1: 3296Y-201LF-ND
footprint 3296Y_Trimmer
pins: 1 (power), 2 (power), 3 (power)

## 220μF
designator C?
220μF 25V  electrolytic
footprint Capacitor-470uf
pins: 1, 2
text: -

## 270KR
designator R?
270KR ±0.1%  0.25W
footprint RESC1518X26N (Chip Resistor, 2-Leads, Body 1.50x1.80mm, IPC Medium Density)
pins: 1, 2

## 330KR
designator R?
330K ohms ±0.1%  0.25W
footprint RESC1518X26N (Chip Resistor, 2-Leads, Body 1.50x1.80mm, IPC Medium Density)
pins: 1, 2

## 470KR
designator R?
470K ohms ± 0.1% 0.25W
footprint RESC1518X26N (Chip Resistor, 2-Leads, Body 1.50x1.80mm, IPC Medium Density)
pins: 1, 2

## 470μF
designator C?
35V electrolytic
footprint Capacitor-470uf
pins: 1, 2
text: -

## 500k
designator R?
BOURNS         3296Y-1-504LF            TRIMMER, 25 TURN 500K; Resistance: 500kR; Tolerance: 10%; Power Rating: 500mW; Voltage Rating: 300V; Number of Turns: 25; Temperature Coefficient: 100ppm/°C; Lead Diameter: 0.5mm; Supplier 1: Digi-Key; Manufacturer: Bourns; Manufacturer Part Number: 3296Y-1-504LF; RoHS: Yes; Category: Variable Resistors and Potentiometers; Stock 1: 290; Pricing 1: 1=2.41000, 10=2.11700, 25=1.89800, 50=1.82500, 100=1.75200, 250=1.67900, 500=1.38700, 1000=1.31400, 5000=1.09500 (USD); Mount: Through Hole,Panel,PCB; Weight: 0.03oz; Color: Blue; Min Operating Temperature: -55°C; Max Operating Temperature: 125°C; Package Quantity: 50; Packaging: Rail/Tube; Voltage Rating (DC): 300V; Resistor Type: Cermet; Termination: Pin; Taper: Linear; Max Power Dissipation: 500mW; Series: 3296; Technology: CERMET; Resistance Tolerance: 10%; Length: 9.53mm; Width: 0.19inch; Height: 0.395inch; Depth: 4.83mm; Radiation Hardening: No; REACH SVHC: No SVHC; Military Standard: Not; Lead Free: Lead Free; RoHS Compliant: Yes; ComponentLink1URL: https://datasheet.ciiva.com/11832/0900766b8069ccf4-11832260.pdf?src-supplier=RSComponents; ComponentLink1Description: https://datasheet.ciiva.com/11832/0900766b8069ccf4-11832260.pdf?src-supplier=RSComponents; ComponentLink2URL: https://datasheet.ciiva.com/29122/447312-da-01-en-trimmer-tht-3296y-1-504lf-500k-0-5w-29122395.pdf?src-supplier=Conrad; ComponentLink2Description: https://datasheet.ciiva.com/29122/447312-da-01-en-trimmer-tht-3296y-1-504lf-500k-0-5w-29122395.pdf?src-supplier=Conrad; ComponentLink3URL: https://datasheet.ciiva.com/2156/3296-2156913.pdf?src-supplier=Digi-Key; ComponentLink3Description: https://datasheet.ciiva.com/2156/3296-2156913.pdf?src-supplier=Digi-Key; ComponentLink4URL: https://datasheet.ciiva.com/1131/1815117-1131508.pdf?src-supplier=Element14; ComponentLink4Description: https://datasheet.ciiva.com/1131/1815117-1131508.pdf?src-supplier=Element14; ComponentLink5URL: https://datasheet.ciiva.com/3266/3296-3266550.pdf?src-supplier=Avnet; ComponentLink5Description: https://datasheet.ciiva.com/3266/3296-3266550.pdf?src-supplier=Avnet; ComponentLink6URL: https://datasheet.ciiva.com/20164/68-0300e-20164135.pdf?src-supplier=Rapid+Electronics; ComponentLink6Description: https://datasheet.ciiva.com/20164/68-0300e-20164135.pdf?src-supplier=Rapid+Electronics; ComponentLink7URL: https://datasheet.ciiva.com/16716/70153578-16716249.pdf?src-supplier=Allied+Electronics; ComponentLink7Description: https://datasheet.ciiva.com/16716/70153578-16716249.pdf?src-supplier=Allied+Electronics; ComponentLink8URL: https://datasheet.ciiva.com/30113/3296-30113148.pdf?src-supplier=Onlinecomponents.com; ComponentLink8Description: https://datasheet.ciiva.com/30113/3296-30113148.pdf?src-supplier=Onlinecomponents.com; ComponentLink9URL: https://datasheet.ciiva.com/32423/dabourns3296-data-e-32423743.pdf?src-supplier=Distrelec; ComponentLink9Description: https://datasheet.ciiva.com/32423/dabourns3296-data-e-32423743.pdf?src-supplier=Distrelec
footprint 3296Y_Trimmer
pins: 1 (power), 2 (power), 3 (power)

## 27899
designator U?
SWITCH KEYPAD 16 KEY NON-ILLUM; Manufacturer: Parallax; Manufacturer Part Number: 27899; Max Current Rating: 30mA; Illumination Type: Non-Illuminated; Supplier 1: Digi-Key; RoHS: Yes; Category: Screw and Nut Drivers; Stock 1: 50; Pricing 1: 1=7.41000 (USD); Mount: Panel,Front; Package Quantity: 1; Termination: Connector; ComponentLink1URL: https://datasheet.ciiva.com/19453/2161473-19453254.pdf?src-supplier=Jameco; ComponentLink1Description: https://datasheet.ciiva.com/19453/2161473-19453254.pdf?src-supplier=Jameco; ComponentLink2URL: https://datasheet.ciiva.com/12466/27899-4x4matrixmembranekeypad-v1-2-33055-12466600.pdf?src-supplier=Mouser; ComponentLink2Description: https://datasheet.ciiva.com/12466/27899-4x4matrixmembranekeypad-v1-2-33055-12466600.pdf?src-supplier=Mouser; Supplier Part Number 1: 27899PAR-ND
footprint 8 pin component_2.54mm pitch
pins: 1 (power), 2 (power), 3 (power), 4 (power), 5 (power), 6 (power), 7 (power), 8 (power)
text: A; B; 9; C; 0; #; D

## AD8630
designator U?  Supplier Part Number 1: 19M0982
ANALOG DEVICES - AD8630ARUZ - Operational Amplifier, Quad, 4 Amplifier, 2.5 MHz, 1 V/µs, 2.7V to 5V, TSSOP, 14 Pins; Gain Bandwidth Product: 2.5MHz; Max Dual Supply Voltage: 2.5V; Min Dual Supply Voltage: 1.35V; Voltage Gain: 145dB; Number of Channels: 4; Common Mode Rejection Ratio: 140dB; Slew Rate: 1V/µs; Input Bias Current: 100pA; Input Offset Voltage (Vos): 2.5uV; Operating Supply Current: 4.4mA; Output Current per Channel: 30mA; Power Supply Rejection Ratio (PSRR): 130dB; Operating Supply Voltage: 3V; Quiescent Current: 1.1mA; Input Capacitance: 10pF; Supplier 1: Newark; Manufacturer: Analog Devices; Manufacturer Part Number: AD8630ARUZ; RoHS: Yes; Category: Amplifiers - Op Amps, Buffer, Instrumentation; Case/Package: TSSOP; Number of Pins: 14; Contact Plating: Tin,Matte; Min Operating Temperature: -40°C; Max Operating Temperature: 125°C; Min Supply Voltage: 2.7V; Max Supply Voltage: 5V; Unity Gain Bandwidth Product: 2.5MHz; Packaging: Rail/Tube; Package Quantity: 96; Number of Circuits: 4; Number of Elements: 4; Number of Amplifiers: 4; -3db Bandwidth: 2.5MHz; Series: -; Bandwidth: 2.5MHz; Max Supply Current: 4.4mA; Length: 5mm; Width: 4.4mm; Height: 1mm; Radiation Hardening: No; Lead Free: Contains Lead; RoHS Compliant: Yes; REACH SVHC: No SVHC; ComponentLink1URL: https://datasheet.ciiva.com/15130/getdatasheetpartid-63998-15130068.pdf?src-supplier=Verical; ComponentLink1Description: https://datasheet.ciiva.com/15130/getdatasheetpartid-63998-15130068.pdf?src-supplier=Verical; ComponentLink2URL: https://datasheet.ciiva.com/26849/ad8630aruz-26849452.pdf?src-supplier=IIIC; ComponentLink2Description: https://datasheet.ciiva.com/26849/ad8630aruz-26849452.pdf?src-supplier=IIIC; ComponentLink3URL: https://datasheet.ciiva.com/1795/ad8628-8629-8630-1795026.pdf?src-supplier=Digi-Key; ComponentLink3Description: https://datasheet.ciiva.com/1795/ad8628-8629-8630-1795026.pdf?src-supplier=Digi-Key; ComponentLink4URL: https://datasheet.ciiva.com/2976/ad8628-8629-8630-2976039.pdf?src-supplier=Avnet; ComponentLink4Description: https://datasheet.ciiva.com/2976/ad8628-8629-8630-2976039.pdf?src-supplier=Avnet; ComponentLink5URL: https://datasheet.ciiva.com/15374/ad8628-8629-8630-249176-15374283.pdf?src-supplier=Mouser; ComponentLink5Description: https://datasheet.ciiva.com/15374/ad8628-8629-8630-249176-15374283.pdf?src-supplier=Mouser; ComponentLink6URL: https://datasheet.ciiva.com/1135/1852416-1135902.pdf?src-supplier=Element14; ComponentLink6Description: https://datasheet.ciiva.com/1135/1852416-1135902.pdf?src-supplier=Element14; ComponentLink7URL: https://datasheet.ciiva.com/48710/001249419-da-01-en-ic-opamp-chopper-ad8630aruz-tssop-14-adi-48710044.pdf?src-supplier=Conrad; ComponentLink7Description: https://datasheet.ciiva.com/48710/001249419-da-01-en-ic-opamp-chopper-ad8630aruz-tssop-14-adi-48710044.pdf?src-supplier=Conrad
footprint SOIC127P600X265-14N (SOIC, 14-Leads, Body 8.65x3.91mm, Pitch 1.27mm, IPC Medium Density)
part A pins: 1 OUT A (power), 2 - (power), 3 + (power)
part B pins: 5 +, 6 -, 7 OUT B
part C pins: 8 OUT C (power), 9 - (power), 10 + (power)
part D pins: 12 + (power), 13 - (power), 14 OUT D (power)
part E pins: 4 V+ (power), 11 V- (power)

## BANANA JACK
designator ?
footprint banana jack
pins: 1 4